# EAGLE library part 82S100 (library dec-con)
16 Input, 8 Output PAL
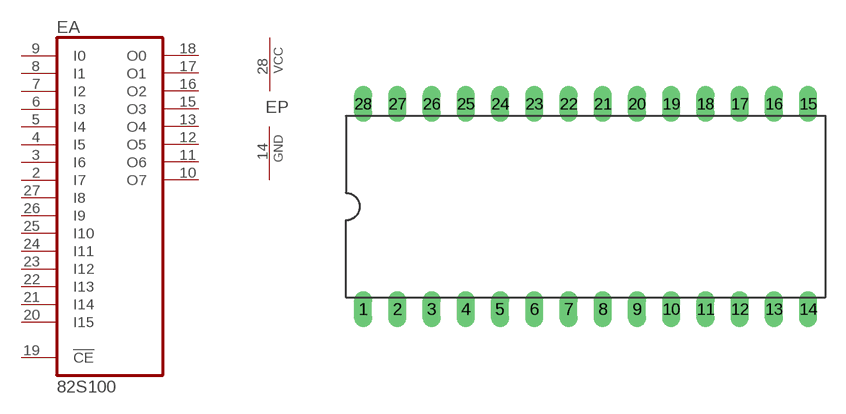
[diagram p108: symbol with the pads of DIL28; footprint DIL28]

Designator prefix E; gates A=82S100 P=PWRN

## 82S100  [DIL28]
2  A:I7  in
3  A:I6  in
4  A:I5  in
5  A:I4  in
6  A:I3  in
7  A:I2  in
8  A:I1  in
9  A:I0  in
10  A:O7  hiz
11  A:O6  hiz
12  A:O5  hiz
13  A:O4  hiz
14  P:GND  pwr
15  A:O3  hiz
16  A:O2  hiz
17  A:O1  hiz
18  A:O0  hiz
19  A:!CE  in
20  A:I15  in
21  A:I14  in
22  A:I13  in
23  A:I12  in
24  A:I11  in
25  A:I10  in
26  A:I9  in
27  A:I8  in
28  P:VCC  pwr

## Footprint DIL28 (pad centres in mm)
28 pin 0.6" DIP
drill 0.813 long: 1 -16.51,-7.62; 2 -13.97,-7.62; 3 -11.43,-7.62; 4 -8.89,-7.62; 5 -6.35,-7.62; 6 -3.81,-7.62; 7 -1.27,-7.62; 8 1.27,-7.62; 9 3.81,-7.62; 10 6.35,-7.62; 11 8.89,-7.62; 12 11.43,-7.62; 13 13.97,-7.62; 14 16.51,-7.62; 15 16.51,7.62; 16 13.97,7.62; 17 11.43,7.62; 18 8.89,7.62; 19 6.35,7.62; 20 3.81,7.62; 21 1.27,7.62; 22 -1.27,7.62; 23 -3.81,7.62; 24 -6.35,7.62; 25 -8.89,7.62; 26 -11.43,7.62; 27 -13.97,7.62; 28 -16.51,7.62